# EAGLE library part SIC620 (library vishay-sic620x)
The SiC620 and SiC620A are integrated power stage solutions optimized for synchronous buck applications to offer high current, high efficiency, and high power density performance. Packaged in Vishay’s proprietary 5 mm x 5 mm MLP package, SiC620 and SiC620A enables voltage regulator designs to deliver up to 60 A continuous current per phase. The SiC620: 5 V PWM optimized The SiC620A: 3.3 V PWM optimized The library has been designed by Richard Magdycz <https://www.facebook.com/groups/eaglecadsoftUK>
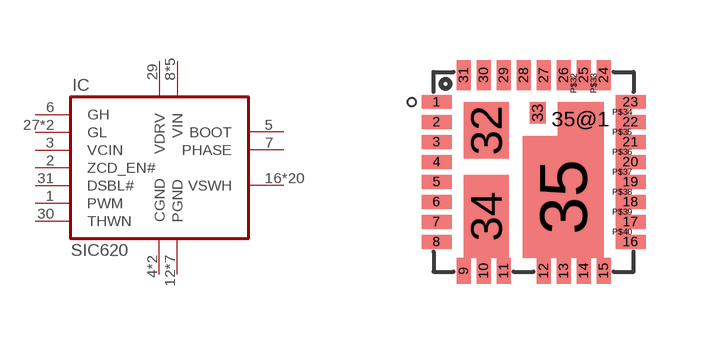
[diagram p0: symbol with the pads of MLP55-31L; footprint MLP55-31L]

Designator prefix IC

## SIC620  [MLP55-31L]
1  PWM
2  ZCD_EN#
3  VCIN
4  CGND  pwr
5  BOOT
6  GH  in
7  PHASE
8  VIN  pwr
9  VIN  pwr
10  VIN  pwr
11  VIN  pwr
12  PGND  pwr
13  PGND  pwr
14  PGND  pwr
15  PGND  pwr
16  VSWH  out
17  VSWH  out
18  VSWH  out
19  VSWH  out
20  VSWH  out
21  VSWH  out
22  VSWH  out
23  VSWH  out
24  VSWH  out
25  VSWH  out
26  VSWH  out
27  GL  in
28  PGND  pwr
29  VDRV  pwr
30  THWN
31  DSBL#
32  CGND  pwr
33  GL  in
34  VIN  pwr
35  PGND  pwr
35@1  PGND  pwr
P$32  VSWH  out
P$33  VSWH  out
P$34  VSWH  out
P$35  VSWH  out
P$36  VSWH  out
P$37  VSWH  out
P$38  VSWH  out
P$39  VSWH  out
P$40  VSWH  out

## Footprint MLP55-31L (pad centres in mm)
smd 0.75 x 0.35: 1 -2.425,1.75; 2 -2.425,1.25; 3 -2.425,0.75; 4 -2.425,0.25; 5 -2.425,-0.25; 6 -2.425,-0.75; 7 -2.425,-1.25; 8 -2.425,-1.75; 16 2.425,-1.75; 17 2.425,-1.25; 18 2.425,-0.75; 19 2.425,-0.25; 20 2.425,0.25; 21 2.425,0.75; 22 2.425,1.25; 23 2.425,1.75
smd 0.35 x 0.65: 9 -1.75,-2.475; 10 -1.25,-2.475; 11 -0.75,-2.475; 12 0.25,-2.475; 13 0.75,-2.475; 14 1.25,-2.475; 15 1.75,-2.475
smd 0.35 x 0.75: 24 1.75,2.425; 25 1.25,2.425; 26 0.75,2.425; 27 0.25,2.425; 28 -0.25,2.425; 29 -0.75,2.425; 30 -1.25,2.425; 31 -1.75,2.425
smd 1.13 x 1.42: 32 -1.185,1.04
smd 0.4 x 0.55: 33 0.1,1.475
smd 1.13 x 2.08: 34 -1.185,-1.115
smd 2.02 x 3.05: 35 0.74,-0.63
smd 1.15 x 0.86: 35@1 1.175,1.32
smd 0.15 x 0.33: P$32 1,2.215; P$33 1.5,2.215
smd 0.33 x 0.15: P$34 2.215,1.5; P$35 2.215,1; P$36 2.215,0.5; P$37 2.215,0; P$38 2.215,-0.5; P$39 2.215,-1; P$40 2.215,-1.5